# Altium schematic symbol library diode-nc_pin.SchLib: 1 symbol
Pins are listed as number, name and electrical type; pins without a type are passive.

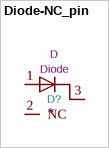
[diagram p0: symbol Diode-NC_pin]

## Diode-NC_pin
designator D?  value Diode  Reference: D
ki_keywords: Doide NC pin; ki_description: Diode with NC pin; Datasheet: https://diotec.com/de/produktliste/D.html
footprint SOT-323
pins: 1 A, 2 NC, 3 K